# Altium schematic symbol library shutdown_circuit.SchLib: 45 symbols (part 3 of 3)
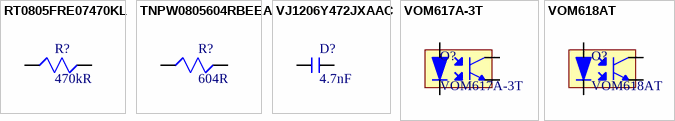
[diagram p3: symbols RT0805FRE07470KL to VOM618AT]

## TNPW0805604RBEEA
designator R?, comment 604R
Res Thin Film 0805 604 Ohm 0.1% 1/5W ±25ppm/°C Molded SMD SMD Paper T/R; Manufacturer: Vishay; Manufacturer Part Number: TNPW0805604RBEEA; Power Rating: 125mW; Voltage Rating: 150V; Voltage Rating (DC): 75V; catagory: resister; Supplier 1: Mouser; Supplier Part Number 1: 71-TNPW0805604RBEEA; Stock 1: 5185; Pricing 1: 1 = 0.62000, 10 = 0.52000, 100 = 0.35000, 1000 = 0.20500, 5000 = 0.18700, 10000 = 0.18000 (USD); Case/Package: 0805; Number of Pins: 2; Weight: 0.000194oz; Case Code (Metric): 2012; Case Code (Imperial): 0805; Contact Plating: Tin; Min Operating Temperature: -55°C; Max Operating Temperature: 125°C; Package Quantity: 5000; Packaging: Tape and Reel; Resistance: 604R; Tolerance: 0.1%; Composition: Thin Film; Number of Terminations: 2; Termination: SMD/SMT; Temperature Coefficient: 25ppm/°C; Max Power Dissipation: 125mW; Features: Moisture Resistant; Length: 0.079inch; Height: 0.022inch; Width: 0.049inch; Radiation Hardening: No; REACH SVHC: Unknown; ComponentLink1URL: https://datasheet.ciiva.com/2608/tnpw-e3-2608289.pdf?src-supplier=Digi-Key; ComponentLink1Description: https://datasheet.ciiva.com/2608/tnpw-e3-2608289.pdf?src-supplier=Digi-Key; ComponentLink2URL: https://datasheet.ciiva.com/8927/tnpw-e3-8927289.pdf?src-supplier=Avnet; ComponentLink2Description: https://datasheet.ciiva.com/8927/tnpw-e3-8927289.pdf?src-supplier=Avnet; ComponentLink3URL: http://datasheet.octopart.com/TNPW0805604RBEEA-Vishay-datasheet-10055244.pdf; ComponentLink3Description: http://datasheet.octopart.com/TNPW0805604RBEEA-Vishay-datasheet-10055244.pdf; ComponentLink4URL: http://datasheet.octopart.com/TNPW0805604RBEEA-Vishay-datasheet-10185418.pdf; ComponentLink4Description: http://datasheet.octopart.com/TNPW0805604RBEEA-Vishay-datasheet-10185418.pdf; ComponentLink5URL: http://datasheet.octopart.com/TNPW0805604RBEEA-Vishay-datasheet-10283461.pdf; ComponentLink5Description: http://datasheet.octopart.com/TNPW0805604RBEEA-Vishay-datasheet-10283461.pdf; ComponentLink6URL: http://datasheet.octopart.com/TNPW0805604RBEEA-Vishay-datasheet-10678752.pdf; ComponentLink6Description: http://datasheet.octopart.com/TNPW0805604RBEEA-Vishay-datasheet-10678752.pdf; ComponentLink7URL: http://datasheet.octopart.com/TNPW0805604RBEEA-Vishay-datasheet-10854096.pdf; ComponentLink7Description: http://datasheet.octopart.com/TNPW0805604RBEEA-Vishay-datasheet-10854096.pdf; ComponentLink8URL: http://datasheet.octopart.com/TNPW0805604RBEEA-Vishay-datasheet-12365287.pdf; ComponentLink8Description: http://datasheet.octopart.com/TNPW0805604RBEEA-Vishay-datasheet-12365287.pdf; ComponentLink9URL: http://datasheet.octopart.com/TNPW0805604RBEEA-Vishay-datasheet-12509767.pdf; ComponentLink9Description: http://datasheet.octopart.com/TNPW0805604RBEEA-Vishay-datasheet-12509767.pdf; ComponentLink10URL: http://datasheet.octopart.com/TNPW0805604RBEEA-Vishay-datasheet-12519971.pdf; ComponentLink10Description: http://datasheet.octopart.com/TNPW0805604RBEEA-Vishay-datasheet-12519971.pdf; ComponentLink11URL: http://datasheet.octopart.com/TNPW0805604RBEEA-Vishay-datasheet-12532511.pdf; ComponentLink11Description: http://datasheet.octopart.com/TNPW0805604RBEEA-Vishay-datasheet-12532511.pdf; ComponentLink12URL: http://datasheet.octopart.com/TNPW0805604RBEEA-Vishay-datasheet-12543131.pdf; ComponentLink12Description: http://datasheet.octopart.com/TNPW0805604RBEEA-Vishay-datasheet-12543131.pdf; ComponentLink13URL: http://datasheet.octopart.com/TNPW0805604RBEEA-Vishay-datasheet-12585086.pdf; ComponentLink13Description: http://datasheet.octopart.com/TNPW0805604RBEEA-Vishay-datasheet-12585086.pdf; ComponentLink14URL: http://datasheet.octopart.com/TNPW0805604RBEEA-Vishay-datasheet-13034137.pdf; ComponentLink14Description: http://datasheet.octopart.com/TNPW0805604RBEEA-Vishay-datasheet-13034137.pdf; ComponentLink15URL: http://datasheet.octopart.com/TNPW0805604RBEEA-Vishay-datasheet-13052401.pdf; ComponentLink15Description: http://datasheet.octopart.com/TNPW0805604RBEEA-Vishay-datasheet-13052401.pdf; ComponentLink16URL: http://datasheet.octopart.com/TNPW0805604RBEEA-Vishay-datasheet-13081780.pdf; ComponentLink16Description: http://datasheet.octopart.com/TNPW0805604RBEEA-Vishay-datasheet-13081780.pdf; ComponentLink17URL: http://datasheet.octopart.com/TNPW0805604RBEEA-Vishay-datasheet-13143890.pdf; ComponentLink17Description: http://datasheet.octopart.com/TNPW0805604RBEEA-Vishay-datasheet-13143890.pdf; ComponentLink18URL: http://datasheet.octopart.com/TNPW0805604RBEEA-Vishay-datasheet-13196373.pdf; ComponentLink18Description: http://datasheet.octopart.com/TNPW0805604RBEEA-Vishay-datasheet-13196373.pdf; ComponentLink19URL: http://datasheet.octopart.com/TNPW0805604RBEEA-Vishay-datasheet-13295955.pdf; ComponentLink19Description: http://datasheet.octopart.com/TNPW0805604RBEEA-Vishay-datasheet-13295955.pdf; ComponentLink20URL: http://datasheet.octopart.com/TNPW0805604RBEEA-Vishay-datasheet-13414878.pdf; ComponentLink20Description: http://datasheet.octopart.com/TNPW0805604RBEEA-Vishay-datasheet-13414878.pdf; ComponentLink21URL: http://datasheet.octopart.com/TNPW0805604RBEEA-Vishay-datasheet-13498837.pdf; ComponentLink21Description: http://datasheet.octopart.com/TNPW0805604RBEEA-Vishay-datasheet-13498837.pdf; ComponentLink22URL: http://datasheet.octopart.com/TNPW0805604RBEEA-Vishay-datasheet-41303423.pdf?src-supplier=Newark; ComponentLink22Description: http://datasheet.octopart.com/TNPW0805604RBEEA-Vishay-datasheet-41303423.pdf?src-supplier=Newark; ComponentLink23URL: http://datasheet.octopart.com/TNPW0805604RBEEA-Vishay-datasheet-78835380.pdf?src-supplier=Newark; ComponentLink23Description: http://datasheet.octopart.com/TNPW0805604RBEEA-Vishay-datasheet-78835380.pdf?src-supplier=Newark; ComponentLink24URL: http://datasheet.octopart.com/TNPW0805604RBEEA-Vishay-datasheet-11546762.pdf?src-supplier=Arrow; ComponentLink24Description: http://datasheet.octopart.com/TNPW0805604RBEEA-Vishay-datasheet-11546762.pdf?src-supplier=Arrow
footprint 604R
pins: 1 83, 2 84

## VJ1206Y472JXAAC
designator D?, comment 4.7nF
Cap Ceramic 0.0047uF 50V X7R 5% SMD 1206 150°C Paper T/R; Manufacturer: Vishay; Manufacturer Part Number: VJ1206Y472JXAAC; catagory: resister; Supplier 1: Mouser; Supplier Part Number 1: 77-VJ1206Y472JXAAC; Stock 1: 17620; Pricing 1: 1 = 0.12000, 50 = 0.04400, 100 = 0.04400, 500 = 0.04400, 1000 = 0.04400, 3000 = 0.03900 (USD); Mount: Surface Mount; Case/Package: 1206; Case Code (Imperial): 1206; Case Code (Metric): 3216; Min Operating Temperature: -55°C; Max Operating Temperature: 150°C; Tolerance: 5%; Packaging: Tape and Reel; Capacitance: 4.7nF; Voltage Rating (DC): 50V; Package Quantity: 3000; Dielectric: X7R; Termination: SMD/SMT; Length: 3.2mm; Height: 1.7mm; Width: 1.6mm; Depth: 1.6mm; ComponentLink1URL: http://components.arrow.com/part/dataview/0323_00214767?src-supplier=Arrow+Europe; ComponentLink1Description: http://components.arrow.com/part/dataview/0323_00214767?src-supplier=Arrow+Europe; ComponentLink2URL: http://www.mouser.com/ds/2/427/vjcommercialseries-222796.pdf?src-supplier=Mouser; ComponentLink2Description: http://www.mouser.com/ds/2/427/vjcommercialseries-222796.pdf?src-supplier=Mouser; ComponentLink3URL: http://www.vishay.com/docs/45199/commseri.pdf?src-supplier=Avnet; ComponentLink3Description: http://www.vishay.com/docs/45199/commseri.pdf?src-supplier=Avnet; ComponentLink4URL: http://datasheet.octopart.com/VJ1206Y472JXAAC-Vishay-datasheet-14932079.pdf; ComponentLink4Description: http://datasheet.octopart.com/VJ1206Y472JXAAC-Vishay-datasheet-14932079.pdf
footprint 4.7nF
pins: 1 50, 2 49

## VOM617A-3T
designator O?
Optocoupler DC-IN 1-CH Transistor DC-OUT 4-Pin SOP T/R; Manufacturer: Vishay; Number of Channels: 1; Collector Emitter Voltage (VCEO): 80V; Max Power Dissipation: 170mW; Forward Current: 60mA; Reverse Breakdown Voltage: 6V; Forward Voltage: 1.6V; Rise Time: 7us; Output Current per Channel: 100mA; Collector Emitter Saturation Voltage: 400mV; Fall Time: 12us; Isolation Voltage: 3.75kV; Current Transfer Ratio: 200%; catagory: optotransister; Supplier 1: Mouser; Supplier Part Number 1: 78-VOM617A-3T; Manufacturer Part Number: VOM617A-3T; Stock 1: 66070; Pricing 1: 1 = 0.23000, 10 = 0.23000, 100 = 0.23000, 500 = 0.23000, 1000 = 0.20700, 3000 = 0.18000 (USD); Mount: Surface Mount; Case/Package: SOP; Number of Pins: 4; Min Operating Temperature: -55°C; Max Operating Temperature: 110°C; Packaging: Tape and Reel; Package Quantity: 1; Output Voltage: 80V; Reverse Voltage (DC): 6V; Max Collector Current: 100mA; Max Input Current: 60mA; Number of Elements: 1; Power Dissipation: 170mW; Max Output Voltage: 80V; Input Current: 60mA; Collector Emitter Breakdown Voltage: 80V; Length: 4.4mm; Height: 2mm; Width: 3.85mm; Radiation Hardening: No; REACH SVHC: Unknown; Lead Free: Lead Free; ComponentLink1URL: https://datasheet.ciiva.com/26321/vom617a-26321205.pdf?src-supplier=Element14; ComponentLink1Description: https://datasheet.ciiva.com/26321/vom617a-26321205.pdf?src-supplier=Element14; ComponentLink2URL: https://datasheet.ciiva.com/26183/vom617a-26183463.pdf?src-supplier=Avnet+Europe; ComponentLink2Description: https://datasheet.ciiva.com/26183/vom617a-26183463.pdf?src-supplier=Avnet+Europe; ComponentLink3URL: https://datasheet.ciiva.com/8085/vom617a-8085790.pdf?src-supplier=Avnet; ComponentLink3Description: https://datasheet.ciiva.com/8085/vom617a-8085790.pdf?src-supplier=Avnet; ComponentLink4URL: https://datasheet.ciiva.com/16387/vom617a-16387999.pdf?src-supplier=Future+Electronics; ComponentLink4Description: https://datasheet.ciiva.com/16387/vom617a-16387999.pdf?src-supplier=Future+Electronics; ComponentLink5URL: http://datasheet.octopart.com/VOM617A-3T-Vishay-datasheet-12560388.pdf?src-supplier=Farnell; ComponentLink5Description: http://datasheet.octopart.com/VOM617A-3T-Vishay-datasheet-12560388.pdf?src-supplier=Farnell; ComponentLink6URL: http://datasheet.octopart.com/VOM617A-3T-Vishay-datasheet-13221710.pdf?src-supplier=Farnell; ComponentLink6Description: http://datasheet.octopart.com/VOM617A-3T-Vishay-datasheet-13221710.pdf?src-supplier=Farnell; ComponentLink7URL: http://datasheet.octopart.com/VOM617A-3T-Vishay-datasheet-62319599.pdf?src-supplier=Newark; ComponentLink7Description: http://datasheet.octopart.com/VOM617A-3T-Vishay-datasheet-62319599.pdf?src-supplier=Newark; ComponentLink8URL: http://datasheet.octopart.com/VOM617A-3T-Vishay-datasheet-41195391.pdf?src-supplier=Farnell; ComponentLink8Description: http://datasheet.octopart.com/VOM617A-3T-Vishay-datasheet-41195391.pdf?src-supplier=Farnell; ComponentLink9URL: http://datasheet.octopart.com/VOM617A-3T-Vishay-datasheet-33013889.pdf?src-supplier=Newark; ComponentLink9Description: http://datasheet.octopart.com/VOM617A-3T-Vishay-datasheet-33013889.pdf?src-supplier=Newark; ComponentLink10URL: http://datasheet.octopart.com/VOM617A-3T-Vishay-Semiconductor-datasheet-41169504.pdf?src-supplier=Element14; ComponentLink10Description: http://datasheet.octopart.com/VOM617A-3T-Vishay-Semiconductor-datasheet-41169504.pdf?src-supplier=Element14
footprint VOM617A-3T
pins: 1 7, 2 5, 3 9, 4 6

## VOM618AT
designator O?
VOM618AT DC Input Phototransistor Output Optocoupler, Surface Mount, 4-Pin SOP; Manufacturer: Vishay; Reverse Breakdown Voltage: 6V; Forward Voltage: 1.6V; Forward Current: 60mA; Max Power Dissipation: 170mW; Number of Channels: 1; Collector Emitter Voltage (VCEO): 80V; Rise Time: 6us; Collector Emitter Saturation Voltage: 400mV; Max Collector Current: 100mA; Fall Time: 29us; Isolation Voltage: 3.75kV; Current Transfer Ratio: 600%; catagory: optotransister; Supplier 1: Mouser; Supplier Part Number 1: 78-VOM618AT; Manufacturer Part Number: VOM618AT; Stock 1: 3046; Pricing 1: 1 = 0.78000, 10 = 0.58000, 100 = 0.40100, 500 = 0.32500, 1000 = 0.26000, 3000 = 0.26000 (USD); Mount: Surface Mount; Case/Package: SOP; Number of Pins: 4; Min Operating Temperature: -55°C; Max Operating Temperature: 110°C; Packaging: Tape and Reel; Package Quantity: 3000; Reverse Voltage (DC): 6V; Output Voltage: 80V; Output Current per Channel: 100mA; Max Input Current: 60mA; Number of Elements: 1; Power Dissipation: 170mW; Max Output Voltage: 80V; Input Current: 60mA; Collector Emitter Breakdown Voltage: 80V; Length: 4.4mm; Height: 2mm; Width: 3.85mm; Radiation Hardening: No; Lead Free: Lead Free; ComponentLink1URL: https://datasheet.ciiva.com/14809/vom618a-14809332.pdf?src-supplier=Arrow; ComponentLink1Description: https://datasheet.ciiva.com/14809/vom618a-14809332.pdf?src-supplier=Arrow; ComponentLink2URL: https://datasheet.ciiva.com/26941/getdatasheetpartid-641279-26941966.pdf?src-supplier=Verical; ComponentLink2Description: https://datasheet.ciiva.com/26941/getdatasheetpartid-641279-26941966.pdf?src-supplier=Verical; ComponentLink3URL: https://datasheet.ciiva.com/26121/vom618a-26121477.pdf?src-supplier=Avnet+Europe; ComponentLink3Description: https://datasheet.ciiva.com/26121/vom618a-26121477.pdf?src-supplier=Avnet+Europe; ComponentLink4URL: https://datasheet.ciiva.com/16388/vom618a-16388008.pdf?src-supplier=Future+Electronics; ComponentLink4Description: https://datasheet.ciiva.com/16388/vom618a-16388008.pdf?src-supplier=Future+Electronics; ComponentLink5URL: https://datasheet.ciiva.com/14079/vom618a-14079934.pdf?src-supplier=Digi-Key; ComponentLink5Description: https://datasheet.ciiva.com/14079/vom618a-14079934.pdf?src-supplier=Digi-Key; ComponentLink6URL: http://datasheet.octopart.com/VOM618AT-Vishay-datasheet-13041718.pdf?src-supplier=Future+Electronics; ComponentLink6Description: http://datasheet.octopart.com/VOM618AT-Vishay-datasheet-13041718.pdf?src-supplier=Future+Electronics; ComponentLink7URL: http://datasheet.octopart.com/VOM618AT-Vishay-datasheet-12559985.pdf?src-supplier=Future+Electronics; ComponentLink7Description: http://datasheet.octopart.com/VOM618AT-Vishay-datasheet-12559985.pdf?src-supplier=Future+Electronics; ComponentLink8URL: http://datasheet.octopart.com/VOM618AT-Vishay-Siliconix-datasheet-62309874.pdf?src-supplier=Allied+Electronics; ComponentLink8Description: http://datasheet.octopart.com/VOM618AT-Vishay-Siliconix-datasheet-62309874.pdf?src-supplier=Allied+Electronics
footprint VOM618AT
pins: 1 7, 2 5, 3 9, 4 6